# Altium schematic symbol library SCH - POWER - SWITCHMODE - TI TPS61120_RSA_16.SchLib: 1 symbol
Pins are listed as number, name and electrical type; pins without a type are passive.

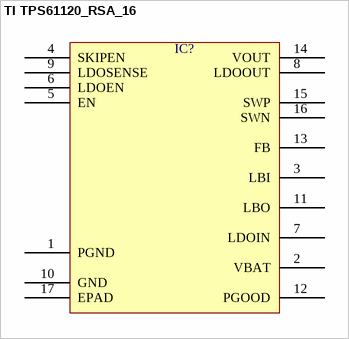
[diagram p0: symbol TI TPS61120_RSA_16]

## TI TPS61120_RSA_16
designator IC?  (value not drawn)
pins: 1 PGND, 2 VBAT, 3 LBI, 4 SKIPEN, 5 EN, 6 LDOEN, 7 LDOIN, 8 LDOOUT, 9 LDOSENSE, 10 GND, 11 LBO, 12 PGOOD, 13 FB, 14 VOUT, 15 SWP, 16 SWN, 17 EPAD